# Altium schematic symbol library ESP8266_boards.SchLib: 1 symbol
Pins are listed as number, name and electrical type; pins without a type are passive.

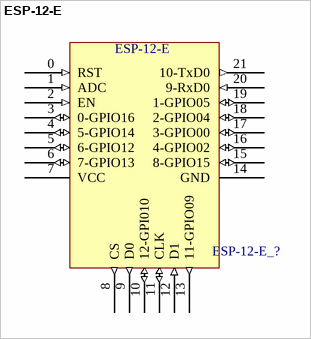
[diagram p0: symbol ESP-12-E]

## ESP-12-E
designator ESP-12-E_?  (value not drawn)
footprint ES-12-E_pads
pins: 0 RST (in), 1 ADC (in), 2 EN (in), 3 0-GPIO16 (io), 4 5-GPIO14 (io), 5 6-GPIO12 (io), 6 7-GPIO13 (io), 7 VCC (power), 8 CS (out), 9 D0 (out), 10 12-GPI010 (io), 11 CLK (io), 12 D1 (in), 13 11-GPIO09 (out), 14 GND (power), 15 8-GPIO15 (io), 16 4-GPIO02 (io), 17 3-GPIO00 (io), 18 2-GPIO04 (io), 19 1-GPIO05 (io), 20 9-RxD0 (in), 21 10-TxD0 (out)